# Altium footprint library OKmePCBLibrary.PcbLib: 197 footprints (part 10 of 13)
Each footprint in its own frame and in the unit in brackets; x right, y up, seen from the top. Pads: shape width x height; smd on the part's side, far side on the other; paste and mask are expansions set on the pad; w line width, h text height; cw(c..) or ccw(c..) is an arc to the next point about the centre after c.
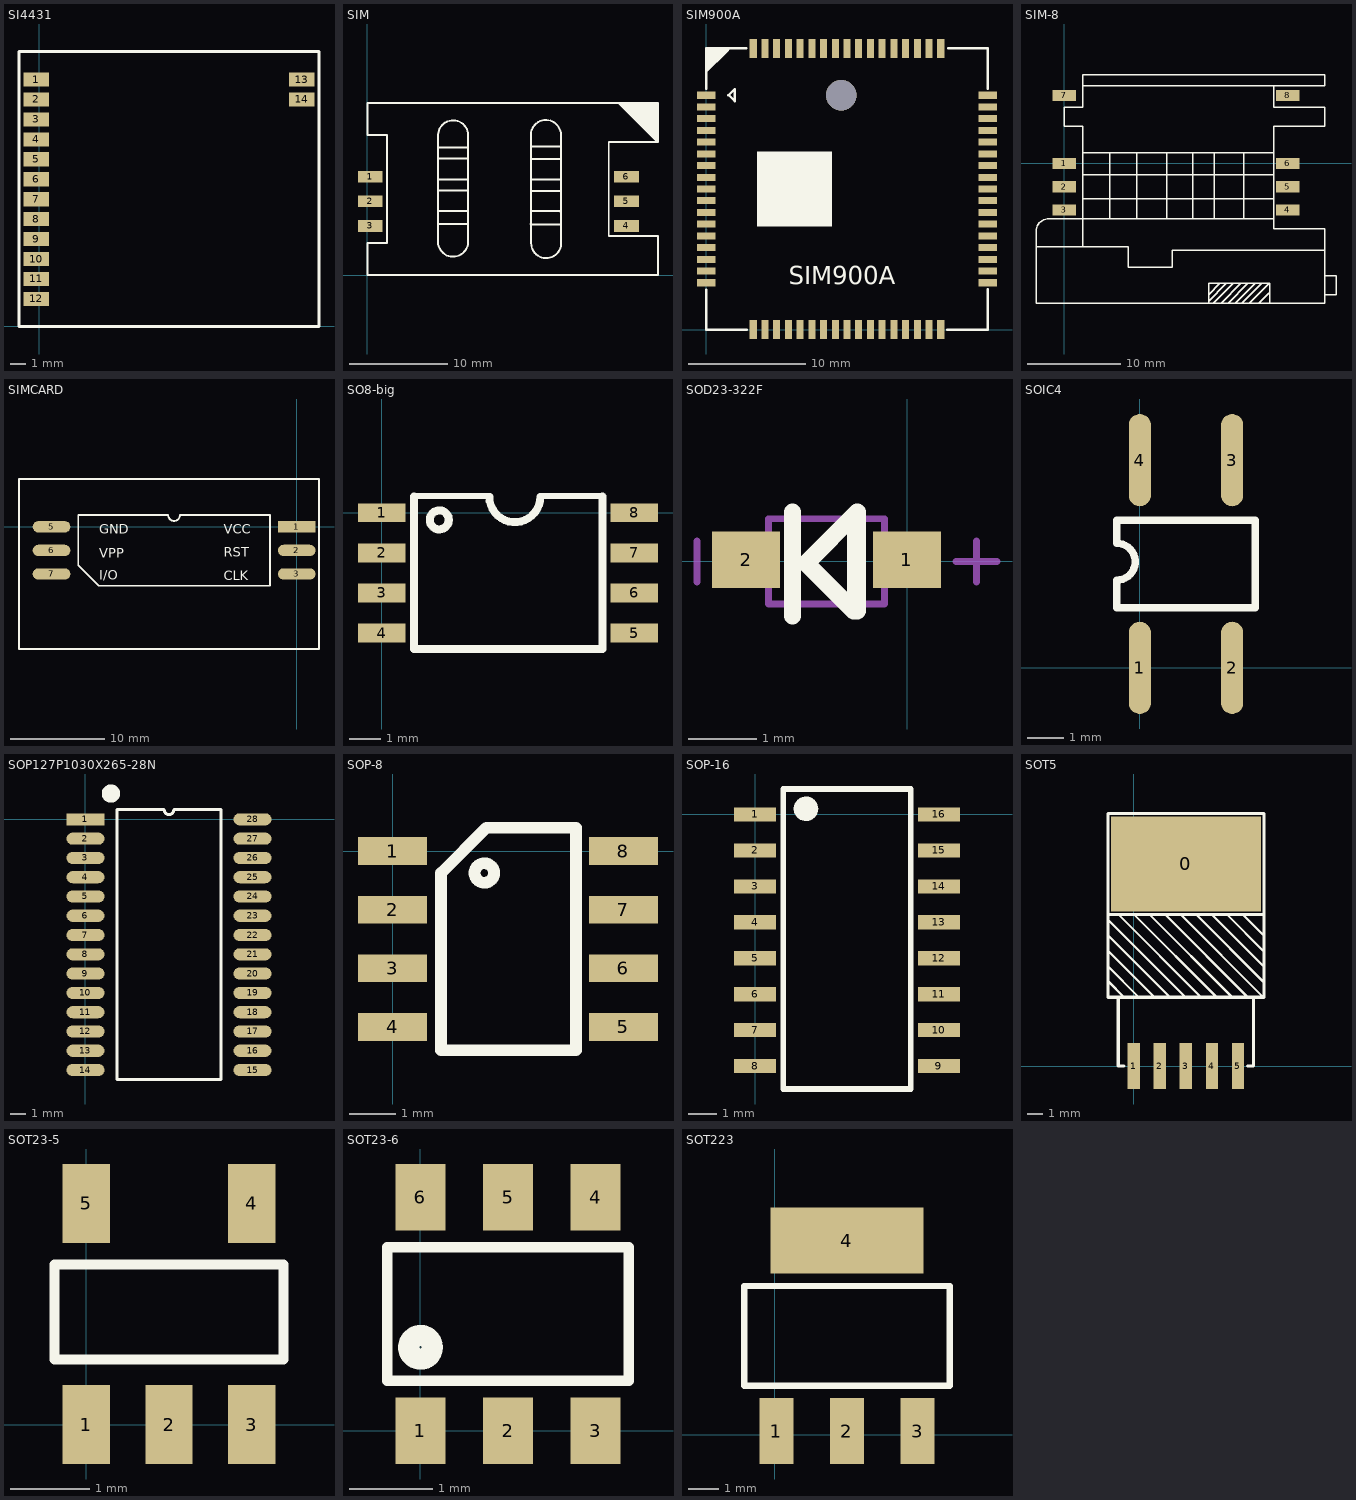
[diagram p9: the footprints below, top view; thin cyan lines are the x and y axes]

## SI4431 [mm]
pads (14):
  rect 1.6x0.9 smd: 1(-0.2,15.72) 2(-0.2,14.45) 3(-0.2,13.18) 4(-0.2,11.91) 5(-0.2,10.64) 6(-0.2,9.37) 7(-0.2,8.1) 8(-0.2,6.83) 9(-0.2,5.56) 10(-0.2,4.29) 11(-0.2,3.02) 12(-0.2,1.75) 13(16.7,15.72) 14(16.7,14.45)
Top Overlay:
  lines w0.2: 17.775,0 -1.3,0 -1.3,17.5 17.8,17.5 17.8,0

## SIM [mm]
pads (6):
  rect 2.5x1.2 smd: 1(0.3,10) 2(0.3,7.5) 3(0.3,5) 4(26.3,5) 5(26.3,7.5) 6(26.3,10)
Top Overlay:
  region: 29.5,13.55 29.325,13.55 25.375,17.5 29.5,17.5
  region: 27.075,17.5 29.2,15.375 29.5,15.375 29.5,17.5
  lines w0.2: 0.8,14.25 0,14.25 ; 7.15,3.225 7.15,14.275 ; 7.15,8.6 10.15,8.6 10.225,8.525 ; 7.15,9.7 10.175,9.7 10.225,9.65 ; 7.15,11.85 10.15,11.85 ; 7.15,12.975 10.15,12.975 10.175,12.95 ; 7.175,3.4 ccw(c8.7,3.4) 10.223,3.329 ; 7.177,14.271 cw(c8.7,14.2) 10.225,14.2 ; 7.2,12.95 10.2,12.95 ; 10.125,5.175 7.2,5.175 7.15,5.225 7.15,6.6 7.25,6.5 10.2,6.5 ; 10.2,3.225 10.2,14.275 ; 16.575,5.175 16.6,5.15 19.675,5.15 ; 16.6,3.225 16.6,14.275 ; 16.6,8.525 19.625,8.525 19.675,8.475 ; 16.6,9.725 19.675,9.725 ; 16.6,11.775 19.625,11.775 ; 16.6,13.075 19.6,13.075 ; 16.602,14.296 cw(c18.125,14.225) 19.65,14.225 ; 16.625,3.25 ccw(c18.15,3.25) 19.673,3.179 ; 16.7,6.5 19.675,6.5 19.6,6.425 ; 19.675,3.225 19.675,14.275 ; 26.3,17.5 27.1,17.5 29.5,15.1 ; 28.9,4 29.5,4 ; 28.925,13.5 29.5,13.5 ; 29.5,13.975 29.5,17.5 ; 0,14.25 0,17.5 ; 0,14.25 2,14.25 2,3.25 0,3.25 0,0 0.5,0 29.5,0 ; 0,14.25 0,17.5 ; 0,17.5 0.5,17.5 29.5,17.5 ; 29.5,0 29.5,3.5 29.5,0 ; 29.5,0 29.5,3.525 29.5,0 ; 29.5,0 29.5,4 ; 29.5,4 24.5,4 24.5,13.5 29.5,13.5 ; 29.5,13.5 29.5,17.5 ; 29.5,17.5 29.5,14 29.5,17.5

## SIM900A [mm]
pads (68):
  rect 1.6x0.6 smd: 1(0,20) 2(0,19) 3(0,18) 4(0,17) 5(0,16) 6(0,15) 7(0,14) 8(0,13) 9(0,12) 10(0,11) 11(0,10) 12(0,9) 13(0,8) 14(0,7) 15(0,6) 16(0,5) 17(0,4) 35(24,4) 36(24,5) 37(24,6) 38(24,7) 39(24,8) 40(24,9) 41(24,10) 42(24,11) 43(24,12) 44(24,13) 45(24,14) 46(24,15) 47(24,16) 48(24,17) 49(24,18) 50(24,19) 51(24,20)
  rect 0.6x1.6 smd: 18(4,0) 19(5,0) 20(6,0) 21(7,0) 22(8,0) 23(9,0) 24(10,0) 25(11,0) 26(12,0) 27(13,0) 28(14,0) 29(15,0) 30(16,0) 31(17,0) 32(18,0) 33(19,0) 34(20,0) 52(20,24) 53(19,24) 54(18,24) 55(17,24) 56(16,24) 57(15,24) 58(14,24) 59(13,24) 60(12,24) 61(11,24) 62(10,24) 63(9,24) 64(8,24) 65(7,24) 66(6,24) 67(5,24) 68(4,24)
via 11.5,20 diameter 2.6 hole 2.6
Top Overlay:
  rectangle: 4.3,8.8 10.7,15.2
  region: 0,21.9 0,24 2.1,24 1.775,23.675
  lines w0.2: 0,3.425 0,0 3.45,0 ; 0,20.55 0,24 3.4,24 ; 20.55,0 24,0 24,3.45 ; 20.625,24 24,24 24,20.55 ; 1.875,20 1.9,20 2.425,20.525 2.425,19.5 1.925,20 1.875,20
  text "SIM900A" at 7.025,3.875 h1.52

## SIM-8 [mm]
pads (8):
  rect 2.5x1.2 smd: 1(0,0) 2(0,-2.5) 3(0,-5) 4(24,-5) 5(24,-2.5) 6(24,0) 7(0,7.3) 8(24,7.3)
Top Overlay:
  lines w0.15: 2,-3.775 22.375,-3.775 ; 2,-1.2 22.45,-1.2 ; 2,1.15 22.425,1.15 ; 2.075,8.325 22.5,8.325 ; 4.9,-5.925 4.9,-1.175 4.9,1.15 ; 7.775,-5.825 7.775,1.15 ; 11,-5.875 11,1.15 ; 13.775,-5.875 13.775,1.15 ; 15.5,-14.775 17.35,-12.925 17.35,-12.875 ; 15.5,-14.075 16.7,-12.875 16.725,-12.875 ; 16.05,-14.95 18.075,-12.925 18.075,-12.875 ; 16.1,-5.9 16.1,1.15 ; 16.85,-15 18.975,-12.875 19,-12.875 ; 17.612,-14.987 19.725,-12.875 ; 18.4,-14.975 20.5,-12.875 20.575,-12.875 ; 19.1,-14.975 21.2,-12.875 ; 19.3,-5.875 19.3,1.15 ; 19.925,-14.975 22.025,-12.875 22.05,-12.875 ; 20.9,-15 21.975,-13.925 22.05,-13.925 ; 22.475,-5.95 2,-5.95 -1.6,-5.95 ccw(c-1.65,-7.325) -3.025,-7.275 -3.025,-8.925 ; 27.975,-14.075 29.175,-14.075 29.175,-13.3 29.175,-12.075 27.975,-12.075 ; 27.975,-9.325 11.575,-9.325 11.575,-11.15 6.9,-11.15 6.9,-9.025 6.8,-8.925 2,-8.925 ; -3.025,-8.925 -3.025,-15 15.5,-15 ; -3.025,-8.925 2,-8.925 ; 2,-8.925 2,4 0,4 0,6 2,6 2,9.5 27.975,9.5 27.975,8.325 22.5,8.325 ; 15.5,-15 22.05,-15 ; 15.5,-15 15.5,-12.875 22.05,-12.875 ; 19.725,-12.875 19.725,-12.875 ; 21.2,-12.875 21.2,-12.875 ; 22.05,-15 27.975,-15 27.975,-7 22.475,-7 22.475,4 27.975,4 27.975,6 22.5,6 22.5,8.325 ; 22.05,-15 22.05,-12.875

## SIMCARD [mm]
pads (6):
  rect 4x1.2 smd: 1(0,0)
  oval 4x1.2 smd: 2(0,-2.5) 3(0,-5) 5(-26,0) 6(-26,-2.5) 7(-26,-5)
Top Overlay:
  lines w0.2: -20.98,-6.25 -2.835,-6.25 -2.835,1.25 -12.375,1.25 cw(c-13,1.25) -13.625,1.25 -23.165,1.25 -23.165,-4.064 -20.98,-6.249 ; 2.358,5.05 -29.447,5.05 -29.447,-12.945 2.362,-12.945 2.362,5.055
  text "VCC" at -7.712,-0.758 h1.02
  text "RST" at -7.712,-3.171 h1.02
  text "CLK" at -7.712,-5.66 h1.02
  text "VPP" at -20.945,-3.298 h1.02
  text "I/O" at -20.945,-5.635 h1.02
  text "GND" at -20.945,-0.733 h1.02

## SO8-big [mm]
pads (8):
  rect 1.5x0.6 smd: 1(0,0) 2(0,-1.27) 3(0,-2.54) 4(0,-3.81) 5(8,-3.81) 6(8,-2.54) 7(8,-1.27) 8(8,0)
Top Overlay:
  circle w0.254: c1.825,-0.225 r0.3
  lines w0.2: 1.016,0.533 3.429,0.533 ; 5.055,0.533 6.934,0.533
  lines w0.25: 3.409,0.508 ccw(c4.216,0.508) 5.024,0.508
  lines w0.254: 1.025,0.508 1.025,-4.318 6.985,-4.318 6.985,0.508

## SOD23-322F [mm]
pads (2):
  rect 1x0.83 smd: 1(0,0.025) 2(-2.36,0.025)
Top Overlay:
  lines w0.2: -0.78,-0.6 -0.78,0.6
  lines w0.254: -1.68,-0.8 -1.68,0.725 ; -0.78,-0.725 -1.48,-0.025 -0.73,0.725 -0.73,-0.725
Mechanical 13:
  lines w0.1: -2.03,-0.625 -0.33,-0.625 -0.33,0.625 -2.03,0.625 -2.03,-0.625
Mechanical 15:
  lines w0.1: -3.08,-0.3 -3.08,0.3 ; 0.72,0 1.32,0 ; 1.02,-0.3 1.02,0.3
3D body: height 0.75, standoff -0.01, extent -2.58,-0.675 0.22,0.675

## SOIC4 [mil]
pads (4):
  oval 24x100 smd: 1(0,0) 2(100,0) 3(100,225) 4(0,225)
Top Overlay:
  lines w8: -25,65 125,65 125,160 -25,160 -25,135 cw(c-25,115) -25,95 -25,65

## SOP127P1030X265-28N [mm] "SOP, 28-Leads, Body 10.5x7.5mm (max), Pitch 1.27mm, IPC Medium Density"
height 2.65
pads (28):
  rect 2.5x0.8 smd: 1(0,0)
  oval 2.5x0.8 smd: 2(0,-1.27) 3(0,-2.54) 4(0,-3.81) 5(0,-5.08) 6(0,-6.35) 7(0,-7.62) 8(0,-8.89) 9(0,-10.16) 10(0,-11.43) 11(0,-12.7) 12(0,-13.97) 13(0,-15.24) 14(0,-16.51) 15(11,-16.51) 16(11,-15.24) 17(11,-13.97) 18(11,-12.7) 19(11,-11.43) 20(11,-10.16) 21(11,-8.89) 22(11,-7.62) 23(11,-6.35) 24(11,-5.08) 25(11,-3.81) 26(11,-2.54) 27(11,-1.27) 28(11,0)
Top Overlay:
  circle w0.25: c1.625,1.75 r0.125
  circle w0.6: c1.675,1.7 r0.3
  lines w0.2: 2.085,-17.145 8.915,-17.145 8.915,0.635 5.817,0.635 cw(c5.5,0.635) 5.182,0.635 2.085,0.635 2.085,-17.145

## SOP-8 [mm]
pads (8):
  rect 1.5x0.6 smd: 1(0,0) 2(0,-1.27) 3(0,-2.54) 4(0,-3.81) 5(5,-3.81) 6(5,-2.54) 7(5,-1.27) 8(5,0)
Top Overlay:
  circle w0.254: c1.988,-0.475 r0.212
  lines w0.254: 1.05,-4.318 3.975,-4.318 3.975,0.508 2.033,0.508 1.05,-0.475 1.05,-4.318

## SOP-16 [mm]
pads (16):
  rect 1.5x0.5 smd: 1(0,0) 2(0,-1.27) 3(0,-2.54) 4(0,-3.81) 5(0,-5.08) 6(0,-6.35) 7(0,-7.62) 8(0,-8.89) 9(6.5,-8.89) 10(6.5,-7.62) 11(6.5,-6.35) 12(6.5,-5.08) 13(6.5,-3.81) 14(6.5,-2.54) 15(6.5,-1.27) 16(6.5,0)
Top Overlay:
  circle w0.15: c1.8,0.2 r0.361
  region: 1.8,0.6 1.9,0.5 2,0.5 2.1,0.4 2,0.4 2.161,0.2 2,-0.1 1.6,-0.1 1.4,0.1 1.4,0.2
  lines w0.2: 1,-9.7 5.5,-9.7 5.5,0.9 1,0.9 1,-9.7

## SOP-28 [mm]

## SOT5 [mm]
pads (6):
  rect 9.8x6.223 smd: 0(3.404,13.208)
  rect 0.8x3 smd: 1(0,0) 2(1.702,0) 3(3.404,0) 4(5.105,0) 5(6.807,0)
Top Overlay:
  lines w0.152: -1.686,5.551 -0.635,4.5 ; -1.672,6.502 0.33,4.5 ; -1.672,7.518 1.346,4.5 ; -1.672,8.534 2.362,4.5 ; -1.672,9.55 3.378,4.5 ; -1.016,9.918 4.402,4.5 ; 0,9.918 5.41,4.508 ; 1.016,9.918 6.426,4.508 ; 2.032,9.918 7.442,4.508 ; 3.048,9.918 8.466,4.5 ; 4.064,9.918 8.514,5.468 ; 5.08,9.918 8.514,6.484 ; 6.071,9.918 8.514,7.475 ; 7.112,9.918 8.514,8.516
  lines w0.203: -1.686,4.5 -1.686,16.5 ; -1.676,4.5 8.514,4.5 8.514,16.5 -1.676,16.5 ; -1.676,9.918 8.514,9.918 ; -1.016,4.5 -1.016,0 -0.635,0 ; 7.442,0 7.823,0 7.823,4.5

## SOT23-5 [mm]
pads (5):
  rect 0.6x1 smd: 1(0,0) 2(1.05,0) 3(2.1,0) 4(2.1,2.8) 5(0,2.8)
Top Overlay:
  lines w0.127: -0.4,0.825 -0.4,2.025 2.5,2.025 2.5,0.825 -0.4,0.825

## SOT23-6 [mm]
pads (6):
  rect 0.6x0.8 smd: 1(0,0) 2(1.05,0) 3(2.1,0) 4(2.1,2.8) 5(1.05,2.8) 6(0,2.8)
Top Overlay:
  circle w0.254: c0,1 r0.141
  lines w0.127: -0.4,0.6 -0.4,2.2 0.325,2.2 1.775,2.2 2.5,2.2 2.5,0.6 -0.4,0.6

## SOT223 [mm]
pads (4):
  rect 1.1x2.15 smd: 1(0.046,0.123) 2(2.346,0.123) 3(4.646,0.123)
  rect 5x2.15 smd: 4(2.346,6.323)
Top Overlay:
  lines w0.2: -1.004,1.598 5.696,1.598 5.696,4.848 -1.004,4.848 -1.004,1.598